# EAGLE library part 750316686 (library WE-OLTI)
WE-OLTI Offline Flyback Transformers Characteristics Nominal input voltage: 85–265 VAC (120–375 VDC) Small size Low leakage inductance Multiple-output options Operating temperature: −40 °C to +125 °C Isolation Voltage: 2 kVAC to 5 kVAC Options for fixed frequency or quasi-resonant mode operation Most products meet reinforced insulation Applications Industrial controls USB chargers Utility metering devices Process controls Factory automation Security systems Garage door opener auxiliary supplies Home appliances Especially designed for several ICs from Texas Instruments <https://www.we-online.com/components/media/o814034v209%20UtOLTI%20Group%20CGI.jpg> Details see: www.we-online.com/en/components/products/WE-OLTI <www.we-online.com/catalog/WE-OLTI/?utm_source=eagle_model&utm_medium=description_link&utm_campaign=eisos_eagle> Created by Ella Wu 2025-02-06 2025 (C) Wurth Elektronik
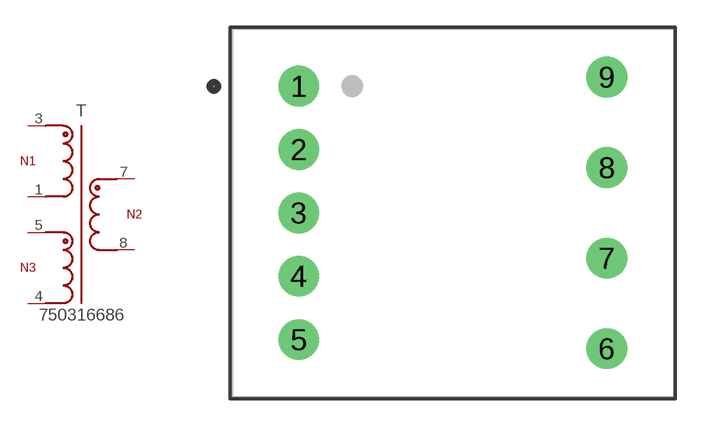
[diagram p26: symbol with the pads of WE-OLTI_EE16/8/5_L20.32W24.38H16; footprint WE-OLTI_EE16/8/5_L20.32W24.38H16]

Designator prefix T

## 750316686 (DATASHEET-URL: https://www.we-online.com/redexpert/spec/750316686?ae; FSWITCH: 70kHz; HEIGHT: 16mm; IOUT1: 1000mA; ISAT: 0.925A; L: 500uH; LENGTH: 20.32mm; MOUNT: THT; N: 6:1:1; PART-NUMBER: 750316686; SIZE: EE16/8/5; VALUE: 500uH; VAUX: 12V; VIN: 85 - 265 V (AC); VOUT1: 12V; VT: 3000V(AC); WIDTH: 24.38mm)  [WE-OLTI_EE16/8/5_L20.32W24.38H16]
1  1  pas
3  3  pas
4  4  pas
5  5  pas
7  7  pas
8  8  pas

## Footprint WE-OLTI_EE16/8/5_L20.32W24.38H16 (pad centres in mm)
WE-OLTI Offline Flyback Transformers Size: EE16/8/5,THT,9pins LXWXH=20.32X24.38X16mm Bobbin: 070-5280
drill 1.5: 1 -8.5,7; 2 -8.5,3.5; 3 -8.5,0; 4 -8.5,-3.5; 5 -8.5,-7; 6 8.5,-7.5; 7 8.5,-2.5; 8 8.5,2.5; 9 8.5,7.5